# Altium footprint library Main_PCBLIB.PcbLib: 5 footprints
Each footprint in its own frame and in the unit in brackets; x right, y up, seen from the top. Pads: shape width x height; smd on the part's side, far side on the other; paste and mask are expansions set on the pad; w line width, h text height; cw(c..) or ccw(c..) is an arc to the next point about the centre after c.
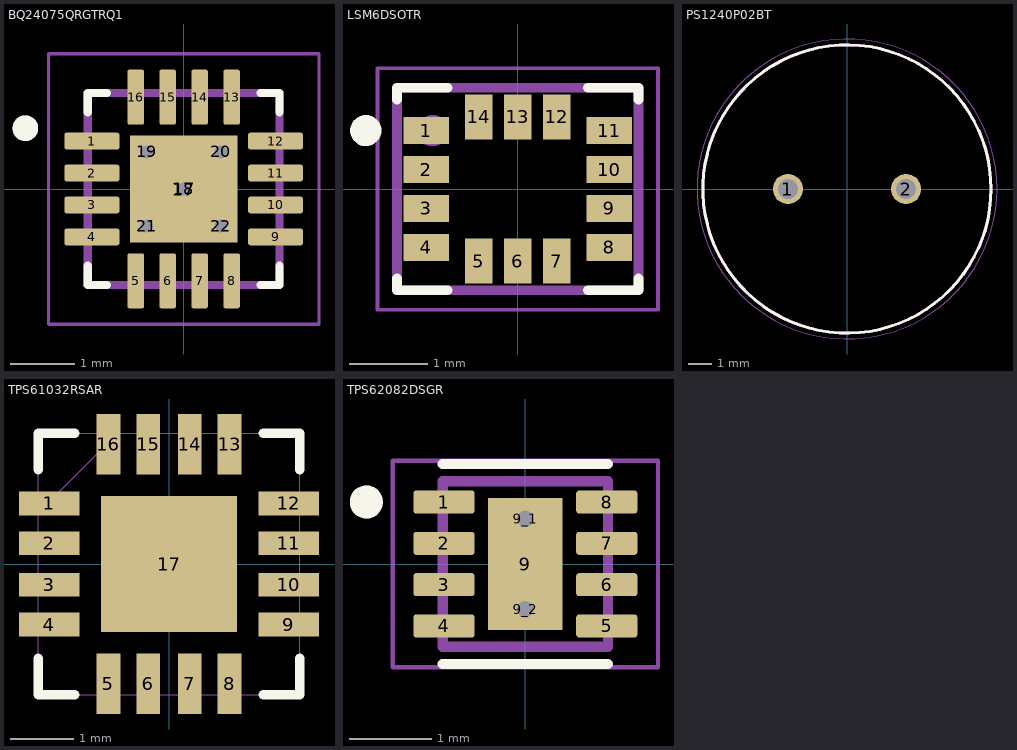
[diagram p0: the footprints below, top view; thin cyan lines are the x and y axes]

## BQ24075QRGTRQ1 [mm] "Lipo charger"
pads (22):
  rrect25% 0.86x0.26 smd: 1(-1.435,0.75) 2(-1.435,0.25) 3(-1.435,-0.25) 4(-1.435,-0.75) 9(1.435,-0.75) 10(1.435,-0.25) 11(1.435,0.25) 12(1.435,0.75)
  rrect25% 0.26x0.86 smd: 5(-0.75,-1.435) 6(-0.25,-1.435) 7(0.25,-1.435) 8(0.75,-1.435) 13(0.75,1.435) 14(0.25,1.435) 15(-0.25,1.435) 16(-0.75,1.435)
  rect 1.68x1.68 smd paste-2: 17(0,0)
  round 0.4 hole 0.2 mask+0: 18(0,0) 19(-0.58,0.58) 20(0.58,0.58) 21(-0.58,-0.58) 22(0.58,-0.58)
Top Overlay:
  circle w0.2: c-2.475,0.95 r0.1
  lines w0.127: -1.5,-1.2 -1.5,-1.5 -1.2,-1.5 ; -1.5,1.2 -1.5,1.5 -1.2,1.5 ; 1.2,-1.5 1.5,-1.5 1.5,-1.2 ; 1.2,1.5 1.5,1.5 1.5,1.2
Top Paste:
  region: 0.53,-0.53 -0.53,-0.53 -0.53,0.53 0.53,0.53
Mechanical 13:
  circle w0.2: c-2.475,0.95 r0.1
  lines w0.127: -1.5,-1.5 1.5,-1.5 1.5,1.5 -1.5,1.5 -1.5,-1.5
Mechanical 15:
  lines w0.05: -2.115,-2.115 2.115,-2.115 2.115,2.115 -2.115,2.115 -2.115,-2.115
3D body "step_temp.STEP": height 1, standoff 0, extent -1.5,-1.5 1.5,1.5

## LSM6DSOTR [mm] "LSM6DSO Accelero"
pads (14):
  rect 0.58x0.35 smd: 1(-1.175,0.75) 2(-1.175,0.25) 3(-1.175,-0.25) 4(-1.175,-0.75) 8(1.175,-0.75) 9(1.175,-0.25) 10(1.175,0.25) 11(1.175,0.75)
  rect 0.35x0.58 smd: 5(-0.5,-0.925) 6(0,-0.925) 7(0.5,-0.925) 12(0.5,0.925) 13(0,0.925) 14(-0.5,0.925)
Top Overlay:
  circle w0.2: c-1.95,0.75 r0.1
  lines w0.127: -1.55,-1.15 -1.55,-1.3 -0.9,-1.3 ; -1.55,1.15 -1.55,1.3 -0.9,1.3 ; 0.9,-1.3 1.55,-1.3 1.55,-1.15 ; 0.9,1.3 1.55,1.3 1.55,1.15
Mechanical 13:
  circle w0.2: c-1.095,0.75 r0.1
  lines w0.127: -1.55,-1.3 1.55,-1.3 1.55,1.3 -1.55,1.3 -1.55,-1.3
Mechanical 15:
  lines w0.05: -1.8,-1.55 1.8,-1.55 1.8,1.55 -1.8,1.55 -1.8,-1.55
3D body "LSM6DSOTR.STEP": height 0.87, standoff 0.01, extent -1.5,-1.25 1.5,1.25

## PS1240P02BT [mm] "Buzzer"
pads (2):
  round 1.28 hole 0.85: 1(-2.5,0) 2(2.5,0)
Top Overlay:
  circle w0.127: c0,0 r6.1
Mechanical 13:
  circle w0.127: c0,0 r6.1
Mechanical 15:
  circle w0.05: c0,0 r6.35
3D body "PS1240P02BT--3DModel-STEP-56544.STEP": height 6.01, standoff -14.99, extent -6.1,-6.1 6.1,6.1

## TPS61032RSAR [mil] "DC/DC boost to 5V"
pads (17):
  rect 38x15 smd: 1(-75,38) 2(-75,13) 3(-75,-13) 4(-75,-38) 9(75,-38) 10(75,-13) 11(75,13) 12(75,38)
  rect 15x38 smd: 5(-38,-75) 6(-13,-75) 7(13,-75) 8(38,-75) 13(38,75) 14(13,75) 15(-13,75) 16(-38,75)
  rect 85x85 smd: 17(0,0)
Top Overlay:
  lines w6: -82,-59 -82,-82 -59,-82 ; -82,59 -82,82 -59,82 ; 59,-82 82,-82 82,-59 ; 59,82 82,82 82,59
Mechanical 13:
  lines w0: -82,-46 -82,-31 ; -82,-20 -82,-5 ; -82,5 -82,20 ; -82,31 -82,46 ; -82,32 -32,82 ; -46,-82 -31,-82 ; -46,82 -31,82 ; -20,-82 -5,-82 ; -20,82 -5,82 ; 5,-82 20,-82 ; 5,82 20,82 ; 31,-82 46,-82 ; 31,82 46,82 ; 82,-46 82,-31 ; 82,-20 82,-5 ; 82,5 82,20 ; 82,31 82,46 ; -82,-82 82,-82 82,82 -82,82 -82,-82
3D body "TPS61032RSAR.STEP": height 39.87, standoff 0.5, extent -78.74,-78.74 78.74,78.74

## TPS62082DSGR [mm] "IC REG BUCK 3.3V 1.2A 8WSON"
pads (11):
  rrect25% 0.74x0.28 smd: 1(-0.985,0.75) 2(-0.985,0.25) 3(-0.985,-0.25) 4(-0.985,-0.75) 5(0.985,-0.75) 6(0.985,-0.25) 7(0.985,0.25) 8(0.985,0.75)
  rect 0.9x1.6 smd paste-2: 9(0,0)
  round 0.4 hole 0.2 mask+0: 9_1(0,0.55) 9_2(0,-0.55)
Top Overlay:
  circle w0.2: c-1.925,0.75 r0.1
  lines w0.127: -1,-1.21 1,-1.21 ; -1,1.21 1,1.21
Top Paste:
  region: 0.28,-0.51 -0.28,-0.51 -0.28,0.51 0.28,0.51
Mechanical 13:
  circle w0.2: c-1.925,0.75 r0.1
  lines w0.127: -1,-1 -1,1 1,1 1,-1 -1,-1
Mechanical 15:
  lines w0.05: -1.605,-1.25 -1.605,1.25 1.605,1.25 1.605,-1.25 -1.605,-1.25
3D body "step_temp.STEP": height 0.8, standoff 0, extent -1,-1 1,1